# Altium schematic symbol library CON9X2.SchLib: 1 symbol
Pins are listed as number, name and electrical type; pins without a type are passive.

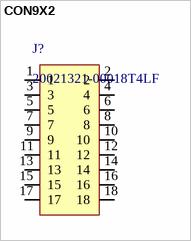
[diagram p0: symbol CON9X2]

## CON9X2
designator J?, comment 20021321-00018T4LF
PDF: http://portal.fciconnect.com/Comergent//fci/drawing/20021321.pdf; BUY_LINK: http://www.digikey.com/product-search/en?vendor=0&keywords=20021321-00018T4LF; PRICE: 0.75690; ID: 20021321-00018T4LF
footprint 20021321-00018T4LF
pins: 1, 2, 3, 4, 5, 6, 7, 8, 9, 10, 11, 12, 13, 14, 15, 16, 17, 18